# Altium schematic symbol library PowerLib.SchLib: 16 symbols
Pins are listed as number, name and electrical type; pins without a type are passive.

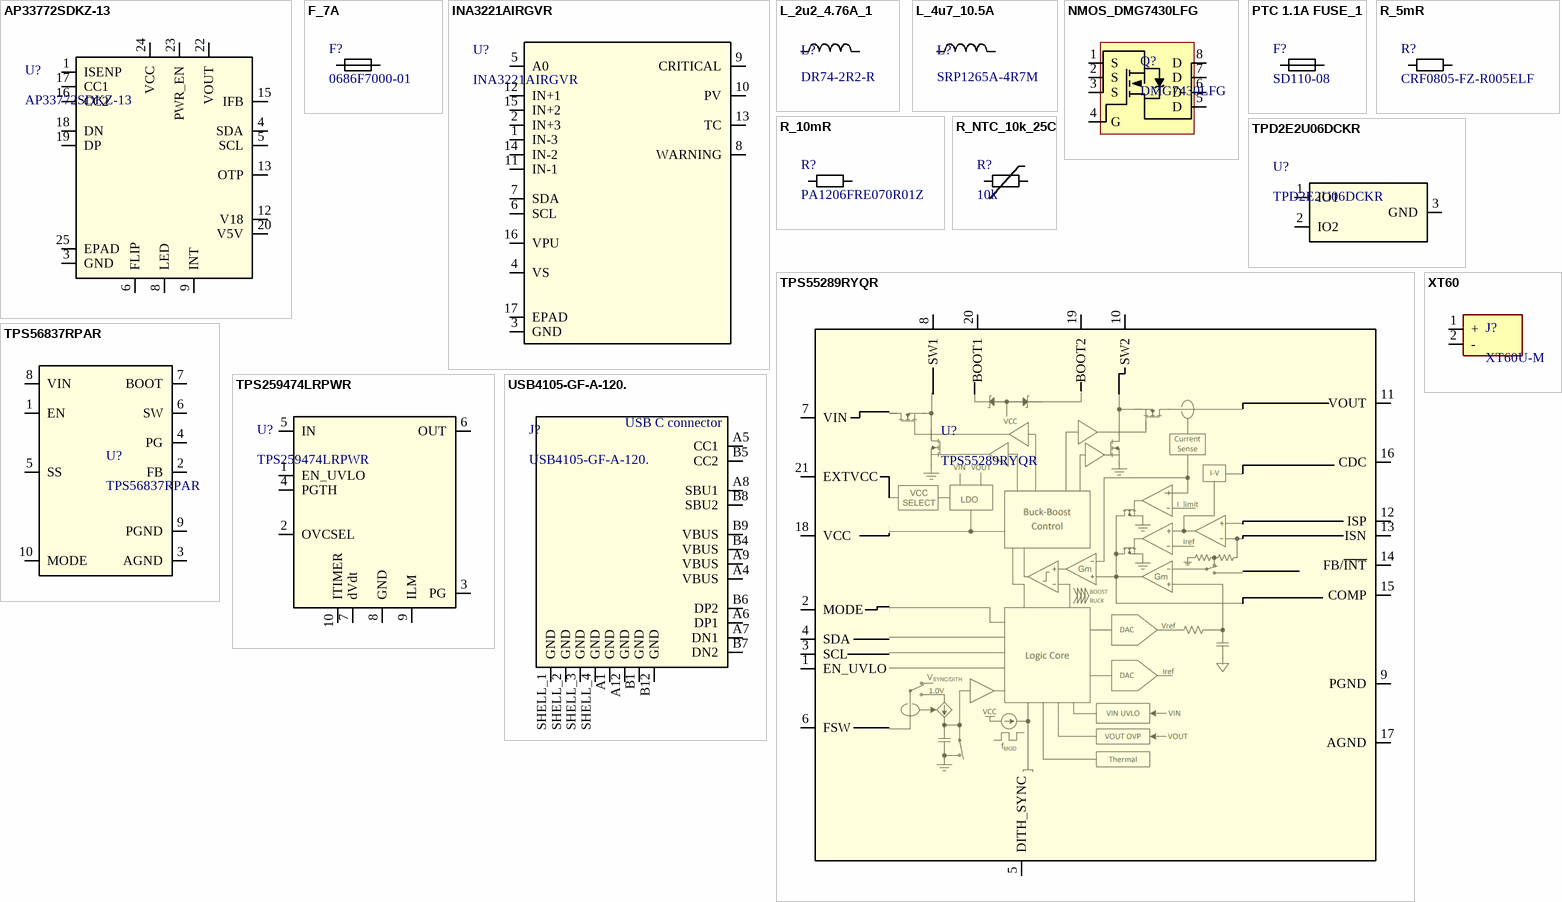
[diagram p0: symbols AP33772SDKZ-13 to XT60]

## AP33772SDKZ-13
designator U?
USB_C PD controller; Manufacturer: Diodes Inc; Manufacturer_Part_Number: AP33772SDKZ-13
footprint W-QFN4040-24_Type_A1_DIO-M
pins: 1 ISENP, 2 NC hidden, 3 GND (power), 4 SDA, 5 SCL, 6 FLIP, 7 NC hidden, 8 LED, 9 INT, 10 NC hidden, 11 NC hidden, 12 V18 (power), 13 OTP, 14 NC hidden, 15 IFB, 16 CC2, 17 CC1, 18 DN, 19 DP, 20 V5V (power), 21 NC hidden, 22 VOUT, 23 PWR_EN, 24 VCC, 25 EPAD (power)

## F_7A
designator F?, comment 0686F7000-01
7A fuse 0603 package; Manufacturer: Bel fuse Inc.; Current: 7A
footprint 0603_FUSE (Footprint not found)
pins: 1, 2
1 alternate drawing of the same symbol

## INA3221AIRGVR
designator U?
26V, triple channel, 13-bit, i2c output current/voltage monitor w/alerts 16-VQFN; Manufacturer: Texas Instruments; Manufacturer_Part_Number: INA3221AIRGVR; Datasheet: https://www.ti.com/lit/gpn/ina3221
footprint RGV16_2P16X2P16
pins: 1 IN-3, 2 IN+3, 3 GND, 4 VS, 5 A0, 6 SCL, 7 SDA, 8 WARNING, 9 CRITICAL, 10 PV, 11 IN-1, 12 IN+1, 13 TC, 14 IN-2, 15 IN+2, 16 VPU, 17 EPAD

## L_2u2_4.76A_1
designator L?, comment DR74-2R2-R
Inductor, 2.2uF 4.76A; Manufacturer: EATON ELECTRONICS; Value: 2u2; Tolerance: 20%; IDC: 7.06A; ComponentLink1Description: Datasheet; ComponentLink1URL: https://www.eaton.com/content/dam/eaton/products/electronic-components/resources/data-sheet/eaton-dr-high-power-density-high-efficiency-shielded-drum-core-power-inductors-data-sheet.pdf; ComponentLink2Description: Supplier; ComponentLink2URL: https://www.digikey.pl/pl/products/detail/eaton-electronics-division/DR74-2R2-R/667219
footprint DR74-2R2-R
pins: 1, 2

## L_4u7_10.5A
designator L?, comment SRP1265A-4R7M
Inductor, 4.7 uF , 10A; Manufacturer: Bourns Inc.; Value: 4u7; Tolerance: 20%; IDC: 10A
footprint SRP1265A-4R7M (Footprint not found)
pins: 1, 2

## NMOS_DMG7430LFG
designator Q?, comment DMG7430LFG
DMG7430LFG, N-mosfet; Manufacturer: Diodes Incorporated; Casing: 8-PowerVDFN
footprint PowerDI3333-8
pins: 1 S, 2 S, 3 S, 4 G, 5 D, 6 D, 7 D, 8 D

## PTC 1.1A FUSE_1
designator F?, comment SD110-08
FUSE PTC 1.1A 8VDC 2.2A TRIP
footprint 1812
pins: 1, 2
1 alternate drawing of the same symbol

## R_5mR
designator R?, comment CRF0805-FZ-R005ELF
Shunt Resistor 5mR, 0805; Tolerance: 1%; Power: 500mW; Casing: 0805; Value: 5mR
footprint R_0805 (Chip Resistor, 2-Leads, Body 2,00x1,25mm, IPC Low Density)
pins: 1, 2
1 alternate drawing of the same symbol

## R_10mR
designator R?, comment PA1206FRE070R01Z
Shunt Resistor 10 mR, 1206, 250mW; Value: 10mR; Tolerance: 1%; Casing: 1206; Power: 250mW
footprint R_1206 (Chip Resistor, 2-Leads, Body 3,20x1,60mm, IPC Low Density)
pins: 1, 2
1 alternate drawing of the same symbol

## R_NTC_10k_25C
designator R?, comment 10k
NTC Thermistor, 10k; Casing: 0603; Tolerance: 1%; Value: 10k
footprint R_0603 (Footprint not found)
pins: 1, 2
1 alternate drawing of the same symbol

## TPD2E2U06DCKR
designator U?
Dual 1.5-pF, 5.5-V, ±25-kV  ESD protection diode with 5.5-A 8/20-uS surge rating  for USB 2.0 3-SC70; Manufacturer: Texas Instruments; Manufacturer_Part_Number: TPD2E2U06DCKR
footprint DCK0003A-MFG
pins: 1 IO1, 2 IO2, 3 GND (power)

## TPS55289RYQR
designator U?
30-V, 8-A buck-boost converter with I2C interface; Manufacturer: Texas Instruments; Manufacturer_Part_Number: TPS55289RYQR; ComponentLink1Description: Datasheet; ComponentLink1URL: https://www.ti.com/lit/ds/symlink/tps55289.pdf; ComponentLink2Description: Supplier; ComponentLink2URL: https://www.digikey.pl/pl/products/detail/texas-instruments/TPS55289RYQR/16928303?s=N4IgTCBcDaIC4AcDOBWFYAcBOASgTwEcAnEAXQF8g; ComponentLink3Description: Supplier; ComponentLink3URL: https://www.mouser.pl/ProductDetail/Texas-Instruments/TPS55289RYQR?qs=T%252BzbugeAwjhgaIN94Lbpjg%3D%3D&utm_id=20109199562&utm_source=google&utm_medium=cpc&utm_marketing_tactic=emeacorp
footprint RYQ0021A-MFG
pins: 1 EN_UVLO, 2 MODE, 3 SCL, 4 SDA, 5 DITH_SYNC, 6 FSW, 7 VIN, 8 SW1, 9 PGND (power), 10 SW2, 11 VOUT, 12 ISP, 13 ISN, 14 FB/~{INT}, 15 COMP, 16 CDC, 17 AGND (power), 18 VCC (power), 19 BOOT2, 20 BOOT1, 21 EXTVCC

## TPS56837RPAR
designator U?
Switching Voltage Regulators 4.5-V to 28-V input 8-A synchronous buck; Manufacturer: Texas Instruments; Manufacturer_Part_Number: TPS56837RPAR
footprint RPA0010A-MFG
pins: 1 EN (power), 2 FB (power), 3 AGND (power), 4 PG (power), 5 SS, 6 SW (power), 7 BOOT (power), 8 VIN, 9 PGND (power), 10 MODE (power)

## TPS259474LRPWR
designator U?
2.7-V to 23-V, 5.5-A eFuse with integrated reverse polarity protection 10-VQFN-HR; Manufacturer: Texas Instruments; Manufacturer_Part_Number: TPS259474LRPWR
footprint RPW0010A-MFG
pins: 1 EN_UVLO, 2 OVCSEL, 3 PG, 4 PGTH, 5 IN, 6 OUT, 7 dVdt, 8 GND, 9 ILM, 10 ITIMER

## USB4105-GF-A-120.
designator J?
USB - C connector  16 pin, 100W, famale paraller to board; Manufacturer: Global Connector Technology; Manufacturer_Part_Number: USB4105-GF-A-120.; Power: 100W
footprint CONN_USB4105-xx-A-xxx_GCT; pin to pad SHELL_1>17 SHELL_2>18 SHELL_3>19 SHELL_4>20
pins: A1 GND (power), A4 VBUS (power), A5 CC1, A6 DP1, A7 DN1, A8 SBU1, A9 VBUS (power), A12 GND (power), B1 GND (power), B4 VBUS (power), B5 CC2, B6 DP2, B7 DN2, B8 SBU2, B9 VBUS (power), B12 GND (power), SHELL_1 GND (power), SHELL_2 GND (power), SHELL_3 GND (power), SHELL_4 GND (power)
text: USB C connector

## XT60
designator J?, comment XT60U-M
XT60 male connector, ewentualnie dostępny w zasobach prywatnych (5szt); Manufacturer: AMASS
footprint XT60U-M
pins: 1 +, 2 -